# Altium footprint library LPEDT_Parts.PcbLib: 39 footprints (part 3 of 3)
Each footprint in its own frame and in the unit in brackets; x right, y up, seen from the top. Pads: shape width x height; smd on the part's side, far side on the other; paste and mask are expansions set on the pad; w line width, h text height; cw(c..) or ccw(c..) is an arc to the next point about the centre after c.
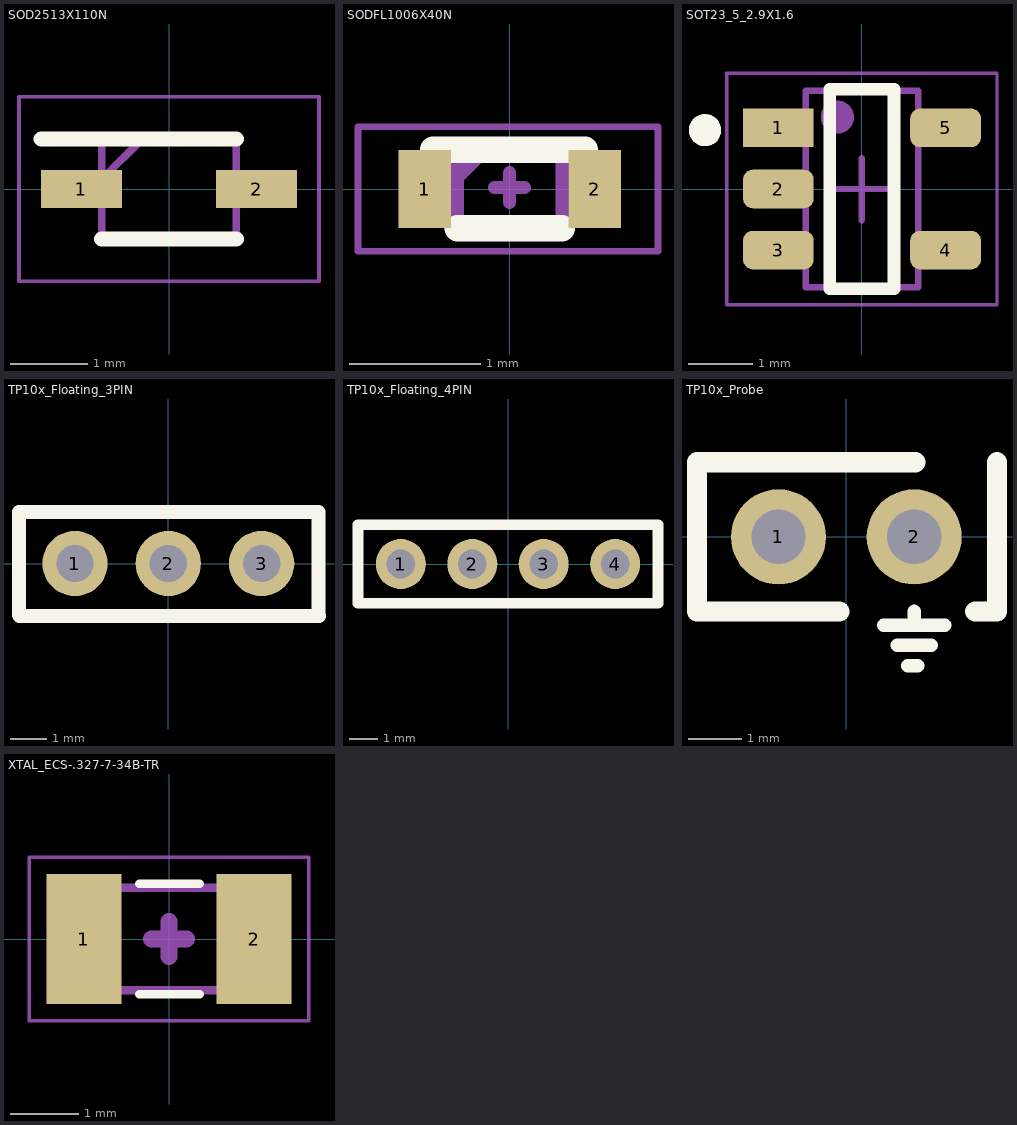
[diagram p2: the footprints below, top view; thin cyan lines are the x and y axes]

## SOD2513X110N [mm]
pads (2):
  rect 1.05x0.5 smd: 1(-1.138,0) 2(1.138,0)
Top Overlay:
  lines w0.2: -1.662,0.65 0.875,0.65 ; -0.875,-0.65 0.875,-0.65
Mechanical 13:
  lines w0.1: -0.875,0.125 -0.35,0.65 ; -0.875,-0.65 0.875,-0.65 0.875,0.65 -0.875,0.65 -0.875,-0.65
Mechanical 15:
  lines w0.05: -1.95,-1.2 1.95,-1.2 1.95,1.2 -1.95,1.2 -1.95,-1.2
3D body "BAT_60A_E6327.stp": height 1.1, standoff 0, extent -1.25,-0.65 1.25,0.65

## SODFL1006X40N [mm]
pads (2):
  rect 0.4x0.6 smd: 1(-0.65,0) 2(0.65,0)
Top Overlay:
  lines w0.2: -0.587,0.3 0.578,0.3 ; -0.4,-0.3 0.4,-0.3
Mechanical 13:
  lines w0.1: -0.4,0.085 -0.185,0.3 ; -0.4,-0.3 0.4,-0.3 0.4,0.33 -0.4,0.33 -0.4,-0.3
  text ".Designator" at -0.178,0.035 h1
Mechanical 15:
  lines w0.05: -1.16,-0.475 1.135,-0.475 1.135,0.475 -1.16,0.475 -1.16,-0.475
  lines w0.1: -0.114,0.013 0.114,0.013 ; 0,-0.102 0,0.127
3D body "D5V0M1U2S9-7.stp": height 0.4, standoff 0, extent -0.5,-0.3 0.5,0.3

## SOT23_5_2.9X1.6 [mm] "LDO Voltage Regulators 250mA Ultra-Lo Noise LDO Reg"
height 1.45
pads (5):
  rect 1.1x0.6 smd: 1(-1.3,0.95)
  rrect50% 1.1x0.6 smd: 2(-1.3,0) 3(-1.3,-0.95) 4(1.3,-0.95) 5(1.3,0.95)
Top Overlay:
  circle w0.25: c-2.44,0.914 r0.125
  lines w0.2: -0.501,-1.55 -0.501,1.55 0.499,1.55 0.499,-1.55 -0.501,-1.55
Mechanical 13:
  circle w0.254: c-0.382,1.118 r0.13
  lines w0.1: -0.876,-1.525 0.874,-1.525 0.874,1.525 -0.876,1.525 -0.876,-1.525
  text ".Designator" at -1.147,-1.194 h1
Mechanical 15:
  lines w0.05: -2.109,1.8 2.098,1.8 2.098,-1.8 -2.101,-1.8 -2.101,1.8
  lines w0.1: -0.501,0 0.499,0 ; -0.001,-0.483 -0.001,0.475
3D body "SOT23_5_2.9X1.6.step": height 1.45, standoff 0, extent -1.575,-1.525 1.425,1.525

## TP10x_Floating_3PIN [mil] "Small Probs footprint"
pads (3):
  round 70 hole 40: 1(-100,0) 2(0,0) 3(100,0)
Top Overlay:
  lines w15: -160,-55 -160,55 161,55 161,-55 ; -159.5,-56 161.5,-56

## TP10x_Floating_4PIN [mil] "Small Probs footprint"
pads (4):
  round 70 hole 40: 1(-150,0) 2(-50,0) 3(50,0) 4(150,0)
Top Overlay:
  lines w15: -210,-55 195,-55 210,-55 210,55 -210,55 -210,-55

## TP10x_Probe [mil] "Small Probs footprint"
pads (2):
  round 70 hole 40: 1(-50,0) 2(50,0)
Top Overlay:
  lines w10: 27.5,-65 72.5,-65 ; 37.5,-80 62.5,-80 ; 45.23,-95 52.5,-95 ; 50,-65 50,-55
  lines w15: -5,-55 -110,-55 -110,55 51,55 ; 95,-55 111,-55 111,55

## XTAL_ECS-.327-7-34B-TR [mm]
pads (2):
  rect 1.1x1.9 smd: 1(-1.25,0) 2(1.25,0)
Top Overlay:
  lines w0.127: -0.432,-0.813 0.448,-0.813 ; -0.432,0.813 0.448,0.813
Mechanical 13:
  lines w0.127: -1.6,-0.75 1.6,-0.75 1.6,0.75 -1.6,0.75 -1.6,-0.75
  text ".Designator" at -1.245,-0.483 h0.76
Mechanical 15:
  lines w0.05: -2.05,-1.2 -2.05,1.2 2.05,1.2 2.05,-1.2 -2.05,-1.2
  lines w0.254: -0.254,0 0.254,0 ; 0,-0.254 0,0.254
3D body "ECS-.327-7-34B-TR.STEP": height 0.9, standoff 0, extent -1.6,-0.75 1.6,0.75